# Altium footprint library ABM3.PcbLib: 1 footprints
Each footprint in its own frame and in the unit in brackets; x right, y up, seen from the top. Pads: shape width x height; smd on the part's side, far side on the other; paste and mask are expansions set on the pad; w line width, h text height; cw(c..) or ccw(c..) is an arc to the next point about the centre after c.
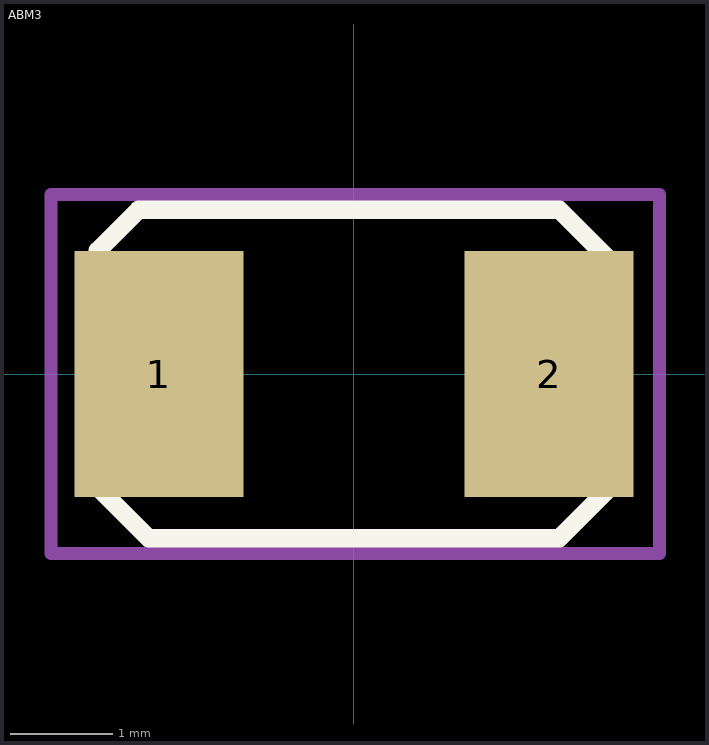
[diagram p0: the footprint, top view; thin cyan lines are the x and y axes]

## ABM3 [mm] "Abracon Crystal 5x3.2mm"
height 1.3
pads (2):
  rect 1.651x2.4 smd: 1(-1.9,0) 2(1.9,0)
Top Overlay:
  lines w0.178: -2.5,-1.1 -2,-1.6 2,-1.6 2.5,-1.1 2.5,1.1 2,1.6 -2,1.6 -2.1,1.6 -2.5,1.2 -2.5,0.3 -2.5,-1.1
Mechanical 13:
  lines w0.127: -2.95,-1.75 -2.95,1.75 2.975,1.75 2.975,-1.75 -2.95,-1.75
  text ".Designator" at -2.8,-1.6 h0.76
3D body: height 1.3, standoff 0.6, extent -2.1,-1.3 2.1,1.3
3D body: height 0.6, standoff 0, extent -2.5,-1.6 2.5,1.6